# Altium integrated library Resistors.IntLib: 4954 symbols (part 30 of 32)
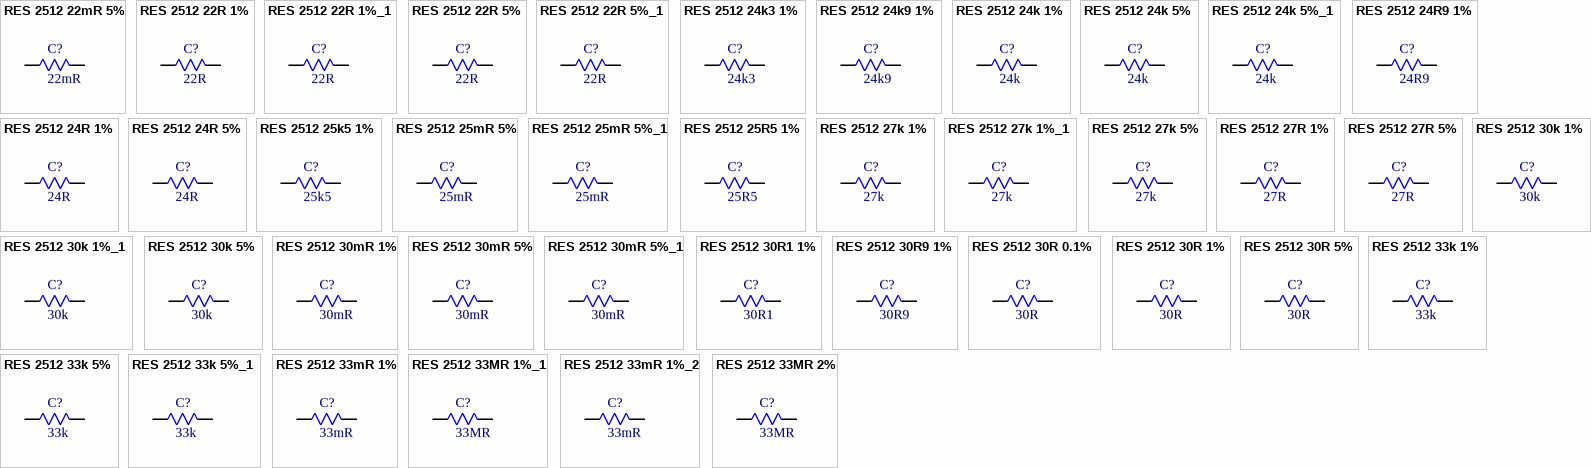
[diagram p152: symbols RES 2512 22mR 5% to RES 2512 33MR 2%]

## RES 2512 30R 0.1%
designator C?, comment 30R
1W 30R 200V Thick Film Resistor 100ppm/â„ƒ 0.1% 2512 Chip Resistor - Surface Mount RoHS; Manufacturer: FOJAN; Manufacturer Part Number: FRH2512B30R0TS; Supplier: LCSC; Supplier Part Number: C49010149; Resistance: 30R; Tolerance: 0.1%; Voltage Rating: 200V; Power: 1W
footprint RES SMD 2512
pins: 1, 2

## RES 2512 30R 1%
designator C?, comment 30R
1W 30R 200V Thick Film Resistor 100ppm/â„ƒ 1% 2512 Chip Resistor - Surface Mount RoHS; Manufacturer: FOJAN; Manufacturer Part Number: FRC2512F30R0TS; Supplier: LCSC; Supplier Part Number: C2960728; Resistance: 30R; Tolerance: 1%; Voltage Rating: 200V; Power: 1W
footprint RES SMD 2512
pins: 1, 2

## RES 2512 30R 5%
designator C?, comment 30R
1W 30R 200V Thick Film Resistor 100ppm/â„ƒ 5% 2512 Chip Resistor - Surface Mount RoHS; Manufacturer: FOJAN; Manufacturer Part Number: FRC2512J300 TS; Supplier: LCSC; Supplier Part Number: C2934107; Resistance: 30R; Tolerance: 5%; Voltage Rating: 200V; Power: 1W
footprint RES SMD 2512
pins: 1, 2

## RES 2512 33k 1%
designator C?, comment 33k
33kR 1% 1W 2512 Thick Film Resistor; Manufacturer: FOJAN; Manufacturer Part Number: FRC2512F3302TS; Voltage Rating: 200V; Supplier: LCSC; Supplier Part Number: C2934069; Resistance: 33k; Tolerance: 1%; Power: 1W
footprint RES SMD 2512
pins: 1, 2

## RES 2512 33k 5%
designator C?, comment 33k
33kR 1W Thick Film Resistor 100ppm/â„ƒ 5% 2512 Chip Resistor - Surface Mount RoHS; Manufacturer: FOJAN; Manufacturer Part Number: FRS2512J333 TS; Supplier: LCSC; Supplier Part Number: C42372224; Resistance: 33k; Tolerance: 5%; Power: 1W
footprint RES SMD 2512
pins: 1, 2

## RES 2512 33k 5%_1
designator C?, comment 33k
33kR 5% 1W 2512 Thick Film Resistor; Manufacturer: FOJAN; Manufacturer Part Number: FRC2512J333 TS; Voltage Rating: 200V; Supplier: LCSC; Supplier Part Number: C2960774; Resistance: 33k; Tolerance: 5%; Power: 1W
footprint RES SMD 2512
pins: 1, 2

## RES 2512 33mR 1%
designator C?, comment 33mR
1W 33mR Thick Film Resistor 1200ppm/â„ƒ 1% 2512 Chip Resistor - Surface Mount RoHS; Manufacturer: FOJAN; Manufacturer Part Number: FRL2512FR033TS; Supplier: LCSC; Supplier Part Number: C7467360; Resistance: 33mR; Tolerance: 1%; Power: 1W
footprint RES SMD 2512
pins: 1, 2

## RES 2512 33MR 1%_1
designator C?, comment 33MR
33MR 1% 1W 2512 Thick Film Resistor; Manufacturer: FOJAN; Manufacturer Part Number: FRG2512F3305TS; Voltage Rating: 200V; Supplier: LCSC; Supplier Part Number: C5126202; Resistance: 33MR; Tolerance: 1%; Power: 1W
footprint RES SMD 2512
pins: 1, 2

## RES 2512 33mR 1%_2
designator C?, comment 33mR
33mR 2W Alloy Resistor 1% 2512 Chip Resistor - Surface Mount RoHS; Manufacturer: FOJAN; Manufacturer Part Number: FRM252WFR033TM; Supplier: LCSC; Supplier Part Number: C51048244; Resistance: 33mR; Tolerance: 1%; Power: 2W
footprint RES SMD 2512
pins: 1, 2

## RES 2512 33MR 2%
designator C?, comment 33MR
33MR 1W Thick Film Resistor 2% 200ppm/â„ƒ 2512 Chip Resistor - Surface Mount RoHS; Manufacturer: FOJAN; Manufacturer Part Number: FRG2512G3305TS; Supplier: LCSC; Supplier Part Number: C22375090; Resistance: 33MR; Tolerance: 2%; Power: 1W
footprint RES SMD 2512
pins: 1, 2

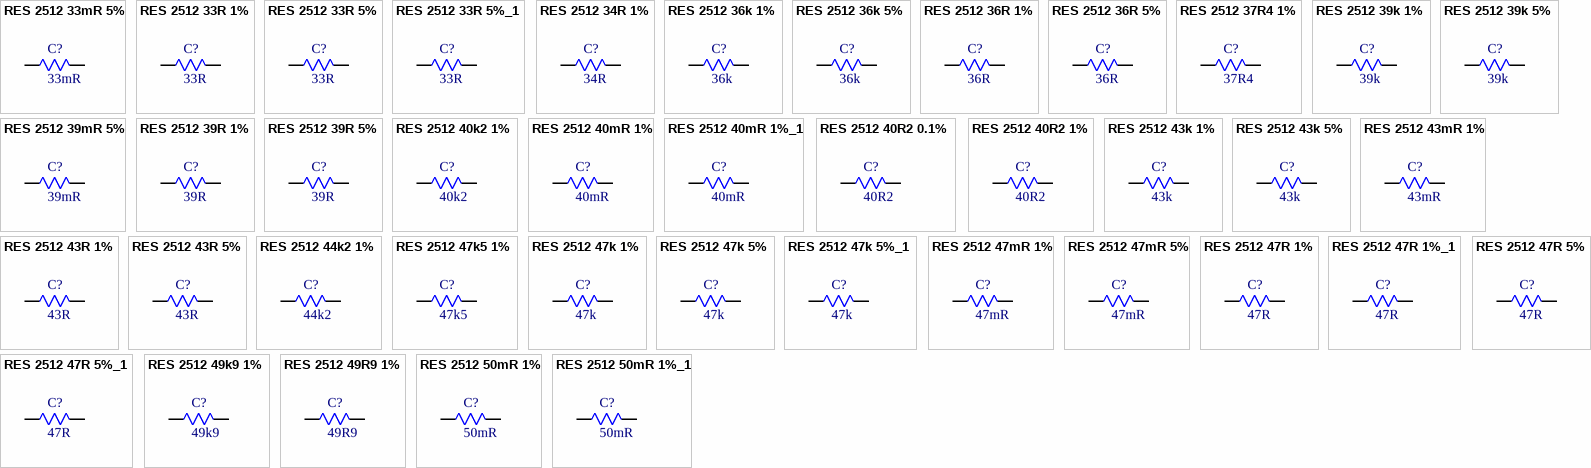
[diagram p116: symbols RES 2512 33mR 5% to RES 2512 50mR 1%_1]

## RES 2512 33mR 5%
designator C?, comment 33mR
1W 33mR Thick Film Resistor 1200ppm/â„ƒ 5% 2512 Chip Resistor - Surface Mount RoHS; Manufacturer: FOJAN; Manufacturer Part Number: FRL2512JR033TS; Supplier: LCSC; Supplier Part Number: C7467375; Resistance: 33mR; Tolerance: 5%; Power: 1W
footprint RES SMD 2512
pins: 1, 2

## RES 2512 33R 1%
designator C?, comment 33R
33R 1W 200V Thick Film Resistor 100ppm/â„ƒ 1% 2512 Chip Resistor - Surface Mount RoHS; Manufacturer: FOJAN; Manufacturer Part Number: FRC2512F33R0TS; Supplier: LCSC; Supplier Part Number: C2934070; Resistance: 33R; Tolerance: 1%; Voltage Rating: 200V; Power: 1W
footprint RES SMD 2512
pins: 1, 2

## RES 2512 33R 5%
designator C?, comment 33R
33R 2W 200V Thick Film Resistor 5% 200ppm/â„ƒ 2512 Chip Resistor - Surface Mount RoHS; Manufacturer: FOJAN; Manufacturer Part Number: FRP2512J330 TS; Supplier: LCSC; Supplier Part Number: C5713429; Resistance: 33R; Tolerance: 5%; Voltage Rating: 200V; Power: 2W
footprint RES SMD 2512
pins: 1, 2

## RES 2512 33R 5%_1
designator C?, comment 33R
33R 1W 200V Thick Film Resistor 100ppm/â„ƒ 5% 2512 Chip Resistor - Surface Mount RoHS; Manufacturer: FOJAN; Manufacturer Part Number: FRC2512J330 TS; Supplier: LCSC; Supplier Part Number: C2907581; Resistance: 33R; Tolerance: 5%; Voltage Rating: 200V; Power: 1W
footprint RES SMD 2512
pins: 1, 2

## RES 2512 34R 1%
designator C?, comment 34R
1W 34R 200V Thick Film Resistor 100ppm/â„ƒ 1% 2512 Chip Resistor - Surface Mount RoHS; Manufacturer: FOJAN; Manufacturer Part Number: FRC2512F34R0TS; Supplier: LCSC; Supplier Part Number: C49196922; Resistance: 34R; Tolerance: 1%; Voltage Rating: 200V; Power: 1W
footprint RES SMD 2512
pins: 1, 2

## RES 2512 36k 1%
designator C?, comment 36k
36kR 1% 1W 2512 Thick Film Resistor; Manufacturer: FOJAN; Manufacturer Part Number: FRC2512F3602TS; Voltage Rating: 200V; Supplier: LCSC; Supplier Part Number: C2934071; Resistance: 36k; Tolerance: 1%; Power: 1W
footprint RES SMD 2512
pins: 1, 2

## RES 2512 36k 5%
designator C?, comment 36k
36kR 5% 1W 2512 Thick Film Resistor; Manufacturer: FOJAN; Manufacturer Part Number: FRC2512J363 TS; Voltage Rating: 200V; Supplier: LCSC; Supplier Part Number: C3013332; Resistance: 36k; Tolerance: 5%; Power: 1W
footprint RES SMD 2512
pins: 1, 2

## RES 2512 36R 1%
designator C?, comment 36R
1W 36R 200V Thick Film Resistor 100ppm/â„ƒ 1% 2512 Chip Resistor - Surface Mount RoHS; Manufacturer: FOJAN; Manufacturer Part Number: FRC2512F36R0TS; Supplier: LCSC; Supplier Part Number: C3013322; Resistance: 36R; Tolerance: 1%; Voltage Rating: 200V; Power: 1W
footprint RES SMD 2512
pins: 1, 2

## RES 2512 36R 5%
designator C?, comment 36R
1W 36R 200V Thick Film Resistor 100ppm/â„ƒ 5% 2512 Chip Resistor - Surface Mount RoHS; Manufacturer: FOJAN; Manufacturer Part Number: FRC2512J360TS; Supplier: LCSC; Supplier Part Number: C3000587; Resistance: 36R; Tolerance: 5%; Voltage Rating: 200V; Power: 1W
footprint RES SMD 2512
pins: 1, 2

## RES 2512 37R4 1%
designator C?, comment 37R4
1W 37.4R 200V Thick Film Resistor 100ppm/â„ƒ 1% 2512 Chip Resistor - Surface Mount RoHS; Manufacturer: FOJAN; Manufacturer Part Number: FRC2512F37R4TS; Supplier: LCSC; Supplier Part Number: C5126023; Resistance: 37R4; Tolerance: 1%; Voltage Rating: 200V; Power: 1W
footprint RES SMD 2512
pins: 1, 2

## RES 2512 39k 1%
designator C?, comment 39k
39kR 1% 1W 2512 Thick Film Resistor; Manufacturer: FOJAN; Manufacturer Part Number: FRC2512F3902TS; Voltage Rating: 200V; Supplier: LCSC; Supplier Part Number: C5713379; Resistance: 39k; Tolerance: 1%; Power: 1W
footprint RES SMD 2512
pins: 1, 2

## RES 2512 39k 5%
designator C?, comment 39k
39kR 5% 1W 2512 Thick Film Resistor; Manufacturer: FOJAN; Manufacturer Part Number: FRC2512J393 TS; Voltage Rating: 200V; Supplier: LCSC; Supplier Part Number: C2934113; Resistance: 39k; Tolerance: 5%; Power: 1W
footprint RES SMD 2512
pins: 1, 2

## RES 2512 39mR 5%
designator C?, comment 39mR
1W 39mR Thick Film Resistor 1200ppm/â„ƒ 5% 2512 Chip Resistor - Surface Mount RoHS; Manufacturer: FOJAN; Manufacturer Part Number: FRL2512JR039TS; Supplier: LCSC; Supplier Part Number: C7467561; Resistance: 39mR; Tolerance: 5%; Power: 1W
footprint RES SMD 2512
pins: 1, 2

## RES 2512 39R 1%
designator C?, comment 39R
39R 1W 200V Thick Film Resistor 100ppm/â„ƒ 1% 2512 Chip Resistor - Surface Mount RoHS; Manufacturer: FOJAN; Manufacturer Part Number: FRC2512F39R0TS; Supplier: LCSC; Supplier Part Number: C2934073; Resistance: 39R; Tolerance: 1%; Voltage Rating: 200V; Power: 1W
footprint RES SMD 2512
pins: 1, 2

## RES 2512 39R 5%
designator C?, comment 39R
39R 1W 200V Thick Film Resistor 100ppm/â„ƒ 5% 2512 Chip Resistor - Surface Mount RoHS; Manufacturer: FOJAN; Manufacturer Part Number: FRC2512J390 TS; Supplier: LCSC; Supplier Part Number: C2907582; Resistance: 39R; Tolerance: 5%; Voltage Rating: 200V; Power: 1W
footprint RES SMD 2512
pins: 1, 2

## RES 2512 40k2 1%
designator C?, comment 40k2
40.2kR 1W 200V Thick Film Resistor 1% 2512 Chip Resistor - Surface Mount RoHS; Manufacturer: FOJAN; Manufacturer Part Number: FRC2512F4022TS; Supplier: LCSC; Supplier Part Number: C51048310; Resistance: 40k2; Tolerance: 1%; Voltage Rating: 200V; Power: 1W
footprint RES SMD 2512
pins: 1, 2

## RES 2512 40mR 1%
designator C?, comment 40mR
2W 40mR Current Sense Resistor 50ppm/â„ƒ 1% 2512 Chip Resistor - Surface Mount RoHS; Manufacturer: FOJAN; Manufacturer Part Number: FRM252WFR040TN; Supplier: LCSC; Supplier Part Number: C7420007; Resistance: 40mR; Tolerance: 1%; Power: 2W
footprint RES SMD 2512
pins: 1, 2

## RES 2512 40mR 1%_1
designator C?, comment 40mR
40mR 1% 3W; Manufacturer: FOJAN; Manufacturer Part Number: FPM253WFR040TN; Supplier: LCSC; Supplier Part Number: C46635906; Resistance: 40mR; Tolerance: 1%; Power: 3W
footprint RES SMD 2512
pins: 1, 2

## RES 2512 40R2 0.1%
designator C?, comment 40R2
1W 40.2R 200V Thick Film Resistor 100ppm/â„ƒ 0.1% 2512 Chip Resistor - Surface Mount RoHS; Manufacturer: FOJAN; Manufacturer Part Number: FRH2512B40R2TS; Supplier: LCSC; Supplier Part Number: C49196930; Resistance: 40R2; Tolerance: 0.1%; Voltage Rating: 200V; Power: 1W
footprint RES SMD 2512
pins: 1, 2

## RES 2512 40R2 1%
designator C?, comment 40R2
1W 40.2R 200V Thick Film Resistor 100ppm/â„ƒ 1% 2512 Chip Resistor - Surface Mount RoHS; Manufacturer: FOJAN; Manufacturer Part Number: FRC2512F40R2TS; Supplier: LCSC; Supplier Part Number: C5121566; Resistance: 40R2; Tolerance: 1%; Voltage Rating: 200V; Power: 1W
footprint RES SMD 2512
pins: 1, 2

## RES 2512 43k 1%
designator C?, comment 43k
43kR 1% 1W 2512 Thick Film Resistor; Manufacturer: FOJAN; Manufacturer Part Number: FRC2512F4302TS; Voltage Rating: 200V; Supplier: LCSC; Supplier Part Number: C5153997; Resistance: 43k; Tolerance: 1%; Power: 1W
footprint RES SMD 2512
pins: 1, 2

## RES 2512 43k 5%
designator C?, comment 43k
43kR 5% 1W 2512 Thick Film Resistor; Manufacturer: FOJAN; Manufacturer Part Number: FRC2512J433 TS; Voltage Rating: 200V; Supplier: LCSC; Supplier Part Number: C2934117; Resistance: 43k; Tolerance: 5%; Power: 1W
footprint RES SMD 2512
pins: 1, 2

## RES 2512 43mR 1%
designator C?, comment 43mR
1W 43mR Thick Film Resistor 1200ppm/â„ƒ 1% 2512 Chip Resistor - Surface Mount RoHS; Manufacturer: FOJAN; Manufacturer Part Number: FRL2512FR043TS; Supplier: LCSC; Supplier Part Number: C7467694; Resistance: 43mR; Tolerance: 1%; Power: 1W
footprint RES SMD 2512
pins: 1, 2

## RES 2512 43R 1%
designator C?, comment 43R
1W 43R 200V Thick Film Resistor 100ppm/â„ƒ 1% 2512 Chip Resistor - Surface Mount RoHS; Manufacturer: FOJAN; Manufacturer Part Number: FRC2512F43R0TS; Supplier: LCSC; Supplier Part Number: C5154022; Resistance: 43R; Tolerance: 1%; Voltage Rating: 200V; Power: 1W
footprint RES SMD 2512
pins: 1, 2

## RES 2512 43R 5%
designator C?, comment 43R
1W 43R 200V Thick Film Resistor 100ppm/â„ƒ 5% 2512 Chip Resistor - Surface Mount RoHS; Manufacturer: FOJAN; Manufacturer Part Number: FRC2512J430TS; Supplier: LCSC; Supplier Part Number: C2930460; Resistance: 43R; Tolerance: 5%; Voltage Rating: 200V; Power: 1W
footprint RES SMD 2512
pins: 1, 2

## RES 2512 44k2 1%
designator C?, comment 44k2
44.2kR 1W 200V Thick Film Resistor 1% 2512 Chip Resistor - Surface Mount RoHS; Manufacturer: FOJAN; Manufacturer Part Number: FRC2512F4422TS; Supplier: LCSC; Supplier Part Number: C51048347; Resistance: 44k2; Tolerance: 1%; Voltage Rating: 200V; Power: 1W
footprint RES SMD 2512
pins: 1, 2

## RES 2512 47k5 1%
designator C?, comment 47k5
1W 47.5kR 200V Thick Film Resistor 1% 2512 Chip Resistor - Surface Mount RoHS; Manufacturer: FOJAN; Manufacturer Part Number: FRC2512F4752TS; Supplier: LCSC; Supplier Part Number: C51048269; Resistance: 47k5; Tolerance: 1%; Voltage Rating: 200V; Power: 1W
footprint RES SMD 2512
pins: 1, 2

## RES 2512 47k 1%
designator C?, comment 47k
47kR 1% 1W 2512 Thick Film Resistor; Manufacturer: FOJAN; Manufacturer Part Number: FRC2512F4702TS; Voltage Rating: 200V; Supplier: LCSC; Supplier Part Number: C2934076; Resistance: 47k; Tolerance: 1%; Power: 1W
footprint RES SMD 2512
pins: 1, 2

## RES 2512 47k 5%
designator C?, comment 47k
47kR 5% 1W 2512 Thick Film Resistor; Manufacturer: FOJAN; Manufacturer Part Number: FRC2512J473 TS; Voltage Rating: 200V; Supplier: LCSC; Supplier Part Number: C2907586; Resistance: 47k; Tolerance: 5%; Power: 1W
footprint RES SMD 2512
pins: 1, 2

## RES 2512 47k 5%_1
designator C?, comment 47k
1W 47kR Thick Film Resistor 100ppm/â„ƒ 5% 2512 Chip Resistor - Surface Mount RoHS; Manufacturer: FOJAN; Manufacturer Part Number: FRS2512J473 TS; Supplier: LCSC; Supplier Part Number: C49010114; Resistance: 47k; Tolerance: 5%; Power: 1W
footprint RES SMD 2512
pins: 1, 2

## RES 2512 47mR 1%
designator C?, comment 47mR
1W 47mR Thick Film Resistor 1200ppm/â„ƒ 1% 2512 Chip Resistor - Surface Mount RoHS; Manufacturer: FOJAN; Manufacturer Part Number: FRL2512FR047TS; Supplier: LCSC; Supplier Part Number: C7467449; Resistance: 47mR; Tolerance: 1%; Power: 1W
footprint RES SMD 2512
pins: 1, 2

## RES 2512 47mR 5%
designator C?, comment 47mR
1W 47mR Thick Film Resistor 1200ppm/â„ƒ 5% 2512 Chip Resistor - Surface Mount RoHS; Manufacturer: FOJAN; Manufacturer Part Number: FRL2512JR047TS; Supplier: LCSC; Supplier Part Number: C7467523; Resistance: 47mR; Tolerance: 5%; Power: 1W
footprint RES SMD 2512
pins: 1, 2

## RES 2512 47R 1%
designator C?, comment 47R
1W 47R 200V Thick Film Resistor 100ppm/â„ƒ 1% 2512 Chip Resistor - Surface Mount RoHS; Manufacturer: FOJAN; Manufacturer Part Number: FRC2512F47R0TS; Supplier: LCSC; Supplier Part Number: C3000771; Resistance: 47R; Tolerance: 1%; Voltage Rating: 200V; Power: 1W
footprint RES SMD 2512
pins: 1, 2

## RES 2512 47R 1%_1
designator C?, comment 47R
47R 2W Thick Film Resistor 200ppm/â„ƒ 1% 2512 Chip Resistor - Surface Mount RoHS; Manufacturer: FOJAN; Manufacturer Part Number: FRP2512F47R0TS; Supplier: LCSC; Supplier Part Number: C7468221; Resistance: 47R; Tolerance: 1%; Power: 2W
footprint RES SMD 2512
pins: 1, 2

## RES 2512 47R 5%
designator C?, comment 47R
2W 47R 200V Thick Film Resistor 200ppm/â„ƒ 5% 2512 Chip Resistor - Surface Mount RoHS; Manufacturer: FOJAN; Manufacturer Part Number: FRP2512J470 TS; Supplier: LCSC; Supplier Part Number: C3013388; Resistance: 47R; Tolerance: 5%; Voltage Rating: 200V; Power: 2W
footprint RES SMD 2512
pins: 1, 2

## RES 2512 47R 5%_1
designator C?, comment 47R
1W 47R 200V Thick Film Resistor 100ppm/â„ƒ 5% 2512 Chip Resistor - Surface Mount RoHS; Manufacturer: FOJAN; Manufacturer Part Number: FRC2512J470TS; Supplier: LCSC; Supplier Part Number: C3000661; Resistance: 47R; Tolerance: 5%; Voltage Rating: 200V; Power: 1W
footprint RES SMD 2512
pins: 1, 2

## RES 2512 49k9 1%
designator C?, comment 49k9
49.9kR 1% 1W 2512 Thick Film Resistor; Manufacturer: FOJAN; Manufacturer Part Number: FRC2512F4992TS; Voltage Rating: 200V; Supplier: LCSC; Supplier Part Number: C3000772; Resistance: 49k9; Tolerance: 1%; Power: 1W
footprint RES SMD 2512
pins: 1, 2

## RES 2512 49R9 1%
designator C?, comment 49R9
49.9R 1W 200V Thick Film Resistor 100ppm/â„ƒ 1% 2512 Chip Resistor - Surface Mount RoHS; Manufacturer: FOJAN; Manufacturer Part Number: FRC2512F49R9TS; Supplier: LCSC; Supplier Part Number: C2960769; Resistance: 49R9; Tolerance: 1%; Voltage Rating: 200V; Power: 1W
footprint RES SMD 2512
pins: 1, 2

## RES 2512 50mR 1%
designator C?, comment 50mR
50mR 2W Current Sense Resistor 50ppm/â„ƒ 1% 2512 Chip Resistor - Surface Mount RoHS; Manufacturer: FOJAN; Manufacturer Part Number: FRM252WFR050TN; Supplier: LCSC; Supplier Part Number: C7420008; Resistance: 50mR; Tolerance: 1%; Power: 2W
footprint RES SMD 2512
pins: 1, 2

## RES 2512 50mR 1%_1
designator C?, comment 50mR
1W 50mR Thick Film Resistor 1200ppm/â„ƒ 1% 2512 Chip Resistor - Surface Mount RoHS; Manufacturer: FOJAN; Manufacturer Part Number: FRL2512FR050TS; Supplier: LCSC; Supplier Part Number: C7467455; Resistance: 50mR; Tolerance: 1%; Power: 1W
footprint RES SMD 2512
pins: 1, 2

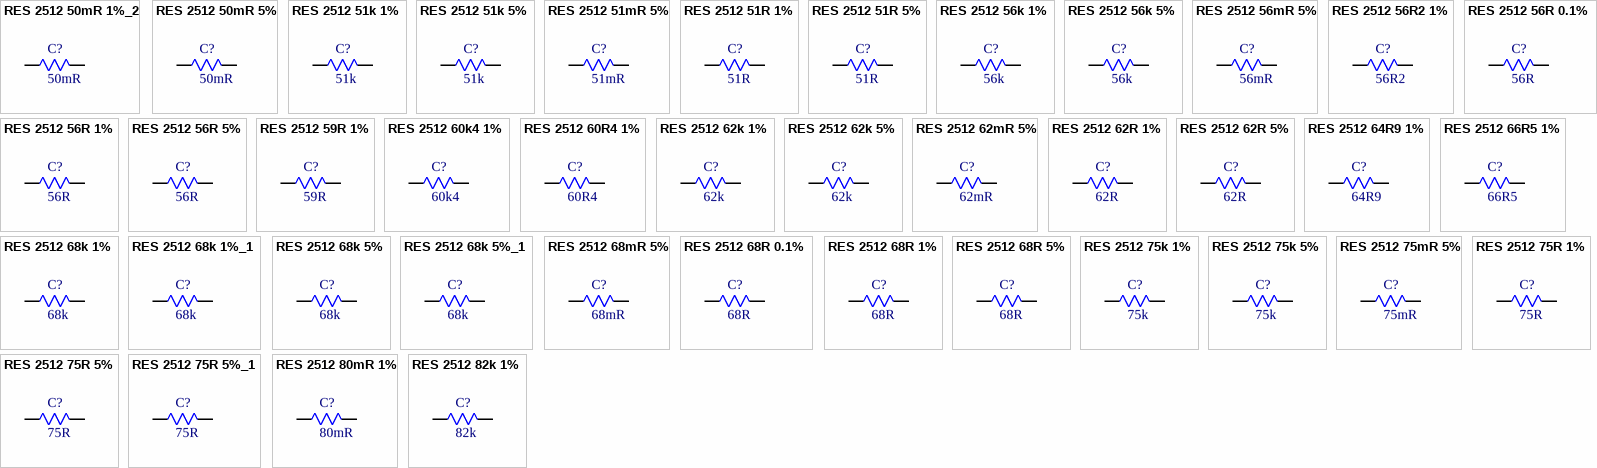
[diagram p117: symbols RES 2512 50mR 1%_2 to RES 2512 82k 1%]

## RES 2512 50mR 1%_2
designator C?, comment 50mR
50mR 1% 3W; Manufacturer: FOJAN; Manufacturer Part Number: FPM253WFR050TM; Supplier: LCSC; Supplier Part Number: C46635896; Resistance: 50mR; Tolerance: 1%; Power: 3W
footprint RES SMD 2512
pins: 1, 2

## RES 2512 50mR 5%
designator C?, comment 50mR
50mR 5% 1W 2512 Thick Film Resistor; Manufacturer: FOJAN; Manufacturer Part Number: FRL2512JR050TS; Voltage Rating: 500V; Supplier: LCSC; Supplier Part Number: C3000641; Resistance: 50mR; Tolerance: 5%; Power: 1W
footprint RES SMD 2512
pins: 1, 2

## RES 2512 51k 1%
designator C?, comment 51k
51kR 1% 1W 2512 Thick Film Resistor; Manufacturer: FOJAN; Manufacturer Part Number: FRC2512F5102TS; Voltage Rating: 200V; Supplier: LCSC; Supplier Part Number: C2960777; Resistance: 51k; Tolerance: 1%; Power: 1W
footprint RES SMD 2512
pins: 1, 2

## RES 2512 51k 5%
designator C?, comment 51k
51kR 5% 1W 2512 Thick Film Resistor; Manufacturer: FOJAN; Manufacturer Part Number: FRC2512J513 TS; Voltage Rating: 200V; Supplier: LCSC; Supplier Part Number: C2934123; Resistance: 51k; Tolerance: 5%; Power: 1W
footprint RES SMD 2512
pins: 1, 2

## RES 2512 51mR 5%
designator C?, comment 51mR
51mR 5% 1W 2512 Thick Film Resistor; Manufacturer: FOJAN; Manufacturer Part Number: FRL2512JR051TS; Voltage Rating: 500V; Supplier: LCSC; Supplier Part Number: C5713414; Resistance: 51mR; Tolerance: 5%; Power: 1W
footprint RES SMD 2512
pins: 1, 2

## RES 2512 51R 1%
designator C?, comment 51R
1W 51R 200V Thick Film Resistor 100ppm/â„ƒ 1% 2512 Chip Resistor - Surface Mount RoHS; Manufacturer: FOJAN; Manufacturer Part Number: FRC2512F51R0TS; Supplier: LCSC; Supplier Part Number: C2934078; Resistance: 51R; Tolerance: 1%; Voltage Rating: 200V; Power: 1W
footprint RES SMD 2512
pins: 1, 2

## RES 2512 51R 5%
designator C?, comment 51R
1W 51R 200V Thick Film Resistor 100ppm/â„ƒ 5% 2512 Chip Resistor - Surface Mount RoHS; Manufacturer: FOJAN; Manufacturer Part Number: FRC2512J510 TS; Supplier: LCSC; Supplier Part Number: C2934120; Resistance: 51R; Tolerance: 5%; Voltage Rating: 200V; Power: 1W
footprint RES SMD 2512
pins: 1, 2

## RES 2512 56k 1%
designator C?, comment 56k
56kR 1% 1W 2512 Thick Film Resistor; Manufacturer: FOJAN; Manufacturer Part Number: FRC2512F5602TS; Voltage Rating: 200V; Supplier: LCSC; Supplier Part Number: C3000560; Resistance: 56k; Tolerance: 1%; Power: 1W
footprint RES SMD 2512
pins: 1, 2

## RES 2512 56k 5%
designator C?, comment 56k
56kR 5% 1W 2512 Thick Film Resistor; Manufacturer: FOJAN; Manufacturer Part Number: FRC2512J563 TS; Voltage Rating: 200V; Supplier: LCSC; Supplier Part Number: C2934125; Resistance: 56k; Tolerance: 5%; Power: 1W
footprint RES SMD 2512
pins: 1, 2

## RES 2512 56mR 5%
designator C?, comment 56mR
56mR 5% 1W 2512 Thick Film Resistor; Manufacturer: FOJAN; Manufacturer Part Number: FRL2512JR056TS; Voltage Rating: 500V; Supplier: LCSC; Supplier Part Number: C5159764; Resistance: 56mR; Tolerance: 5%; Power: 1W
footprint RES SMD 2512
pins: 1, 2

## RES 2512 56R2 1%
designator C?, comment 56R2
1W 56.2R 200V Thick Film Resistor 100ppm/â„ƒ 1% 2512 Chip Resistor - Surface Mount RoHS; Manufacturer: FOJAN; Manufacturer Part Number: FRC2512F56R2 TS; Supplier: LCSC; Supplier Part Number: C5357169; Resistance: 56R2; Tolerance: 1%; Voltage Rating: 200V; Power: 1W
footprint RES SMD 2512
pins: 1, 2

## RES 2512 56R 0.1%
designator C?, comment 56R
56R 1W 200V Thick Film Resistor 100ppm/â„ƒ 0.1% 2512 Chip Resistor - Surface Mount RoHS; Manufacturer: FOJAN; Manufacturer Part Number: FRH2512B56R0TS; Supplier: LCSC; Supplier Part Number: C49196687; Resistance: 56R; Tolerance: 0.1%; Voltage Rating: 200V; Power: 1W
footprint RES SMD 2512
pins: 1, 2

## RES 2512 56R 1%
designator C?, comment 56R
1W 56R 200V Thick Film Resistor 100ppm/â„ƒ 1% 2512 Chip Resistor - Surface Mount RoHS; Manufacturer: FOJAN; Manufacturer Part Number: FRC2512F56R0TS; Supplier: LCSC; Supplier Part Number: C2999538; Resistance: 56R; Tolerance: 1%; Voltage Rating: 200V; Power: 1W
footprint RES SMD 2512
pins: 1, 2

## RES 2512 56R 5%
designator C?, comment 56R
1W 56R 200V Thick Film Resistor 100ppm/â„ƒ 5% 2512 Chip Resistor - Surface Mount RoHS; Manufacturer: FOJAN; Manufacturer Part Number: FRC2512J560TS; Supplier: LCSC; Supplier Part Number: C3000665; Resistance: 56R; Tolerance: 5%; Voltage Rating: 200V; Power: 1W
footprint RES SMD 2512
pins: 1, 2

## RES 2512 59R 1%
designator C?, comment 59R
1W 59R 200V Thick Film Resistor 100ppm/â„ƒ 1% 2512 Chip Resistor - Surface Mount RoHS; Manufacturer: FOJAN; Manufacturer Part Number: FRC2512F59R0TS; Supplier: LCSC; Supplier Part Number: C48533785; Resistance: 59R; Tolerance: 1%; Voltage Rating: 200V; Power: 1W
footprint RES SMD 2512
pins: 1, 2

## RES 2512 60k4 1%
designator C?, comment 60k4
60.4kR 1% 1W 2512 Thick Film Resistor; Manufacturer: FOJAN; Manufacturer Part Number: FRC2512F6042TS; Voltage Rating: 200V; Supplier: LCSC; Supplier Part Number: C5126066; Resistance: 60k4; Tolerance: 1%; Power: 1W
footprint RES SMD 2512
pins: 1, 2

## RES 2512 60R4 1%
designator C?, comment 60R4
1W 60.4R 200V Thick Film Resistor 100ppm/â„ƒ 1% 2512 Chip Resistor - Surface Mount RoHS; Manufacturer: FOJAN; Manufacturer Part Number: FRC2512F60R4TS; Supplier: LCSC; Supplier Part Number: C2999539; Resistance: 60R4; Tolerance: 1%; Voltage Rating: 200V; Power: 1W
footprint RES SMD 2512
pins: 1, 2

## RES 2512 62k 1%
designator C?, comment 62k
62kR 1% 1W 2512 Thick Film Resistor; Manufacturer: FOJAN; Manufacturer Part Number: FRC2512F6202TS; Voltage Rating: 200V; Supplier: LCSC; Supplier Part Number: C2999628; Resistance: 62k; Tolerance: 1%; Power: 1W
footprint RES SMD 2512
pins: 1, 2

## RES 2512 62k 5%
designator C?, comment 62k
62kR 5% 1W 2512 Thick Film Resistor; Manufacturer: FOJAN; Manufacturer Part Number: FRC2512J623 TS; Voltage Rating: 200V; Supplier: LCSC; Supplier Part Number: C2934126; Resistance: 62k; Tolerance: 5%; Power: 1W
footprint RES SMD 2512
pins: 1, 2

## RES 2512 62mR 5%
designator C?, comment 62mR
62mR 5% 1W 2512 Thick Film Resistor; Manufacturer: FOJAN; Manufacturer Part Number: FRL2512JR062TS; Voltage Rating: 500V; Supplier: LCSC; Supplier Part Number: C3000642; Resistance: 62mR; Tolerance: 5%; Power: 1W
footprint RES SMD 2512
pins: 1, 2

## RES 2512 62R 1%
designator C?, comment 62R
1W 62R 200V Thick Film Resistor 100ppm/â„ƒ 1% 2512 Chip Resistor - Surface Mount RoHS; Manufacturer: FOJAN; Manufacturer Part Number: FRC2512F62R0TS; Supplier: LCSC; Supplier Part Number: C2999540; Resistance: 62R; Tolerance: 1%; Voltage Rating: 200V; Power: 1W
footprint RES SMD 2512
pins: 1, 2

## RES 2512 62R 5%
designator C?, comment 62R
1W 62R 200V Thick Film Resistor 100ppm/â„ƒ 5% 2512 Chip Resistor - Surface Mount RoHS; Manufacturer: FOJAN; Manufacturer Part Number: FRC2512J620 TS; Supplier: LCSC; Supplier Part Number: C2960732; Resistance: 62R; Tolerance: 5%; Voltage Rating: 200V; Power: 1W
footprint RES SMD 2512
pins: 1, 2

## RES 2512 64R9 1%
designator C?, comment 64R9
1W 64.9R 200V Thick Film Resistor 1% 2512 Chip Resistor - Surface Mount RoHS; Manufacturer: FOJAN; Manufacturer Part Number: FRC2512F64R9TS; Supplier: LCSC; Supplier Part Number: C51048316; Resistance: 64R9; Tolerance: 1%; Voltage Rating: 200V; Power: 1W
footprint RES SMD 2512
pins: 1, 2

## RES 2512 66R5 1%
designator C?, comment 66R5
1W 66.5R 200V Thick Film Resistor 1% 2512 Chip Resistor - Surface Mount RoHS; Manufacturer: FOJAN; Manufacturer Part Number: FRC2512F66R5TS; Supplier: LCSC; Supplier Part Number: C52033526; Resistance: 66R5; Tolerance: 1%; Voltage Rating: 200V; Power: 1W
footprint RES SMD 2512
pins: 1, 2

## RES 2512 68k 1%
designator C?, comment 68k
68kR 2W Thick Film Resistor 200ppm/â„ƒ 1% 2512 Chip Resistor - Surface Mount RoHS; Manufacturer: FOJAN; Manufacturer Part Number: FRP2512F6802TS; Supplier: LCSC; Supplier Part Number: C7468207; Resistance: 68k; Tolerance: 1%; Power: 2W
footprint RES SMD 2512
pins: 1, 2

## RES 2512 68k 1%_1
designator C?, comment 68k
68kR 1% 1W 2512 Thick Film Resistor; Manufacturer: FOJAN; Manufacturer Part Number: FRC2512F6802TS; Voltage Rating: 200V; Supplier: LCSC; Supplier Part Number: C5159762; Resistance: 68k; Tolerance: 1%; Power: 1W
footprint RES SMD 2512
pins: 1, 2

## RES 2512 68k 5%
designator C?, comment 68k
68kR 5% 1W 2512 Thick Film Resistor; Manufacturer: FOJAN; Manufacturer Part Number: FRC2512J683 TS; Voltage Rating: 200V; Supplier: LCSC; Supplier Part Number: C2960758; Resistance: 68k; Tolerance: 5%; Power: 1W
footprint RES SMD 2512
pins: 1, 2

## RES 2512 68k 5%_1
designator C?, comment 68k
68kR 1W Thick Film Resistor 100ppm/â„ƒ 5% 2512 Chip Resistor - Surface Mount RoHS; Manufacturer: FOJAN; Manufacturer Part Number: FRS2512J683 TS; Supplier: LCSC; Supplier Part Number: C42372226; Resistance: 68k; Tolerance: 5%; Power: 1W
footprint RES SMD 2512
pins: 1, 2

## RES 2512 68mR 5%
designator C?, comment 68mR
68mR 5% 1W 2512 Thick Film Resistor; Manufacturer: FOJAN; Manufacturer Part Number: FRL2512JR068TS; Voltage Rating: 500V; Supplier: LCSC; Supplier Part Number: C3000683; Resistance: 68mR; Tolerance: 5%; Power: 1W
footprint RES SMD 2512
pins: 1, 2

## RES 2512 68R 0.1%
designator C?, comment 68R
1W 68R 200V Thick Film Resistor 100ppm/â„ƒ 0.1% 2512 Chip Resistor - Surface Mount RoHS; Manufacturer: FOJAN; Manufacturer Part Number: FRH2512B68R0TS; Supplier: LCSC; Supplier Part Number: C49196689; Resistance: 68R; Tolerance: 0.1%; Voltage Rating: 200V; Power: 1W
footprint RES SMD 2512
pins: 1, 2

## RES 2512 68R 1%
designator C?, comment 68R
1W 68R 200V Thick Film Resistor 100ppm/â„ƒ 1% 2512 Chip Resistor - Surface Mount RoHS; Manufacturer: FOJAN; Manufacturer Part Number: FRC2512F68R0TS; Supplier: LCSC; Supplier Part Number: C2999608; Resistance: 68R; Tolerance: 1%; Voltage Rating: 200V; Power: 1W
footprint RES SMD 2512
pins: 1, 2

## RES 2512 68R 5%
designator C?, comment 68R
68R 1W 200V Thick Film Resistor 100ppm/â„ƒ 5% 2512 Chip Resistor - Surface Mount RoHS; Manufacturer: FOJAN; Manufacturer Part Number: FRC2512J680 TS; Supplier: LCSC; Supplier Part Number: C2907587; Resistance: 68R; Tolerance: 5%; Voltage Rating: 200V; Power: 1W
footprint RES SMD 2512
pins: 1, 2

## RES 2512 75k 1%
designator C?, comment 75k
75kR 1% 1W 2512 Thick Film Resistor; Manufacturer: FOJAN; Manufacturer Part Number: FRC2512F7502TS; Voltage Rating: 200V; Supplier: LCSC; Supplier Part Number: C2999605; Resistance: 75k; Tolerance: 1%; Power: 1W
footprint RES SMD 2512
pins: 1, 2

## RES 2512 75k 5%
designator C?, comment 75k
75kR 5% 1W 2512 Thick Film Resistor; Manufacturer: FOJAN; Manufacturer Part Number: FRC2512J753 TS; Voltage Rating: 200V; Supplier: LCSC; Supplier Part Number: C2907588; Resistance: 75k; Tolerance: 5%; Power: 1W
footprint RES SMD 2512
pins: 1, 2

## RES 2512 75mR 5%
designator C?, comment 75mR
75mR 5% 1W 2512 Thick Film Resistor; Manufacturer: FOJAN; Manufacturer Part Number: FRL2512JR075TS; Voltage Rating: 500V; Supplier: LCSC; Supplier Part Number: C3000715; Resistance: 75mR; Tolerance: 5%; Power: 1W
footprint RES SMD 2512
pins: 1, 2

## RES 2512 75R 1%
designator C?, comment 75R
1W 75R 200V Thick Film Resistor 100ppm/â„ƒ 1% 2512 Chip Resistor - Surface Mount RoHS; Manufacturer: FOJAN; Manufacturer Part Number: FRC2512F75R0TS; Supplier: LCSC; Supplier Part Number: C3000608; Resistance: 75R; Tolerance: 1%; Voltage Rating: 200V; Power: 1W
footprint RES SMD 2512
pins: 1, 2

## RES 2512 75R 5%
designator C?, comment 75R
75R 2W Thick Film Resistor 200ppm/â„ƒ 5% 2512 Chip Resistor - Surface Mount RoHS; Manufacturer: FOJAN; Manufacturer Part Number: FRP2512J750 TS; Supplier: LCSC; Supplier Part Number: C7468128; Resistance: 75R; Tolerance: 5%; Power: 2W
footprint RES SMD 2512
pins: 1, 2

## RES 2512 75R 5%_1
designator C?, comment 75R
1W 75R 200V Thick Film Resistor 100ppm/â„ƒ 5% 2512 Chip Resistor - Surface Mount RoHS; Manufacturer: FOJAN; Manufacturer Part Number: FRC2512J750 TS; Supplier: LCSC; Supplier Part Number: C2907589; Resistance: 75R; Tolerance: 5%; Voltage Rating: 200V; Power: 1W
footprint RES SMD 2512
pins: 1, 2

## RES 2512 80mR 1%
designator C?, comment 80mR
2W 80mR 50ppm/â„ƒ 1% 2512 Chip Resistor - Surface Mount RoHS; Manufacturer: FOJAN; Manufacturer Part Number: FPM252WFR080TM; Supplier: LCSC; Supplier Part Number: C48533609; Resistance: 80mR; Tolerance: 1%; Power: 2W
footprint RES SMD 2512
pins: 1, 2

## RES 2512 82k 1%
designator C?, comment 82k
1W 82kR 200V Thick Film Resistor 1% 100ppm/â„ƒ 2512 Chip Resistor - Surface Mount RoHS; Manufacturer: FOJAN; Manufacturer Part Number: FRC2512F8202TS; Supplier: LCSC; Supplier Part Number: C7467345; Resistance: 82k; Tolerance: 1%; Voltage Rating: 200V; Power: 1W
footprint RES SMD 2512
pins: 1, 2

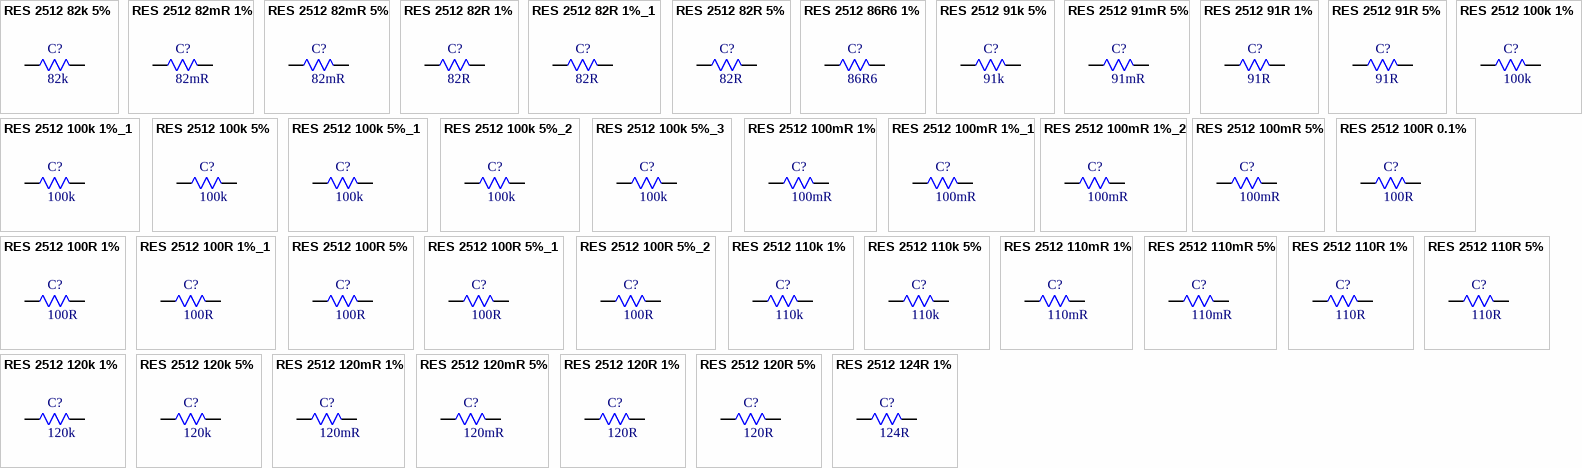
[diagram p118: symbols RES 2512 82k 5% to RES 2512 124R 1%]

## RES 2512 82k 5%
designator C?, comment 82k
82kR 5% 1W 2512 Thick Film Resistor; Manufacturer: FOJAN; Manufacturer Part Number: FRC2512J823TS; Voltage Rating: 200V; Supplier: LCSC; Supplier Part Number: C3000669; Resistance: 82k; Tolerance: 5%; Power: 1W
footprint RES SMD 2512
pins: 1, 2

## RES 2512 82mR 1%
designator C?, comment 82mR
1W 82mR Thick Film Resistor 200ppm/â„ƒ 1% 2512 Chip Resistor - Surface Mount RoHS; Manufacturer: FOJAN; Manufacturer Part Number: FRL2512FR082TS; Supplier: LCSC; Supplier Part Number: C7467601; Resistance: 82mR; Tolerance: 1%; Power: 1W
footprint RES SMD 2512
pins: 1, 2

## RES 2512 82mR 5%
designator C?, comment 82mR
82mR 5% 1W 2512 Thick Film Resistor; Manufacturer: FOJAN; Manufacturer Part Number: FRL2512JR082TS; Voltage Rating: 500V; Supplier: LCSC; Supplier Part Number: C3000670; Resistance: 82mR; Tolerance: 5%; Power: 1W
footprint RES SMD 2512
pins: 1, 2

## RES 2512 82R 1%
designator C?, comment 82R
1W 82R 200V Thick Film Resistor 100ppm/â„ƒ 1% 2512 Chip Resistor - Surface Mount RoHS; Manufacturer: FOJAN; Manufacturer Part Number: FRC2512F82R0TS; Supplier: LCSC; Supplier Part Number: C3000773; Resistance: 82R; Tolerance: 1%; Voltage Rating: 200V; Power: 1W
footprint RES SMD 2512
pins: 1, 2

## RES 2512 82R 1%_1
designator C?, comment 82R
82R 2W Thick Film Resistor 200ppm/â„ƒ 1% 2512 Chip Resistor - Surface Mount RoHS; Manufacturer: FOJAN; Manufacturer Part Number: FRP2512F82R0TS; Supplier: LCSC; Supplier Part Number: C7468298; Resistance: 82R; Tolerance: 1%; Power: 2W
footprint RES SMD 2512
pins: 1, 2

## RES 2512 82R 5%
designator C?, comment 82R
1W 82R 200V Thick Film Resistor 100ppm/â„ƒ 5% 2512 Chip Resistor - Surface Mount RoHS; Manufacturer: FOJAN; Manufacturer Part Number: FRC2512J820TS; Supplier: LCSC; Supplier Part Number: C3000699; Resistance: 82R; Tolerance: 5%; Voltage Rating: 200V; Power: 1W
footprint RES SMD 2512
pins: 1, 2

## RES 2512 86R6 1%
designator C?, comment 86R6
1W 86.6R 200V Thick Film Resistor 100ppm/â„ƒ 1% 2512 Chip Resistor - Surface Mount RoHS; Manufacturer: FOJAN; Manufacturer Part Number: FRC2512F86R6TS; Supplier: LCSC; Supplier Part Number: C22375103; Resistance: 86R6; Tolerance: 1%; Voltage Rating: 200V; Power: 1W
footprint RES SMD 2512
pins: 1, 2

## RES 2512 91k 5%
designator C?, comment 91k
91kR 5% 1W 2512 Thick Film Resistor; Manufacturer: FOJAN; Manufacturer Part Number: FRC2512J913TS; Voltage Rating: 200V; Supplier: LCSC; Supplier Part Number: C3000714; Resistance: 91k; Tolerance: 5%; Power: 1W
footprint RES SMD 2512
pins: 1, 2

## RES 2512 91mR 5%
designator C?, comment 91mR
91mR 5% 1W 2512 Thick Film Resistor; Manufacturer: FOJAN; Manufacturer Part Number: FRL2512JR091TS; Voltage Rating: 500V; Supplier: LCSC; Supplier Part Number: C3013370; Resistance: 91mR; Tolerance: 5%; Power: 1W
footprint RES SMD 2512
pins: 1, 2

## RES 2512 91R 1%
designator C?, comment 91R
1W 91R 200V Thick Film Resistor 1% 100ppm/â„ƒ 2512 Chip Resistor - Surface Mount RoHS; Manufacturer: FOJAN; Manufacturer Part Number: FRC2512F91R0TS; Supplier: LCSC; Supplier Part Number: C7467476; Resistance: 91R; Tolerance: 1%; Voltage Rating: 200V; Power: 1W
footprint RES SMD 2512
pins: 1, 2

## RES 2512 91R 5%
designator C?, comment 91R
91R 1W 200V Thick Film Resistor 100ppm/â„ƒ 5% 2512 Chip Resistor - Surface Mount RoHS; Manufacturer: FOJAN; Manufacturer Part Number: FRC2512J910 TS; Supplier: LCSC; Supplier Part Number: C2934133; Resistance: 91R; Tolerance: 5%; Voltage Rating: 200V; Power: 1W
footprint RES SMD 2512
pins: 1, 2

## RES 2512 100k 1%
designator C?, comment 100k
100kR 1% 1W 2512 Thick Film Resistor; Manufacturer: FOJAN; Manufacturer Part Number: FRC2512F1003TS; Voltage Rating: 200V; Supplier: LCSC; Supplier Part Number: C2934045; Resistance: 100k; Tolerance: 1%; Power: 1W
footprint RES SMD 2512
pins: 1, 2

## RES 2512 100k 1%_1
designator C?, comment 100k
2W 100kR 200V Thick Film Resistor 200ppm/â„ƒ 1% 2512 Chip Resistor - Surface Mount RoHS; Manufacturer: FOJAN; Manufacturer Part Number: FRP2512F1003TS; Supplier: LCSC; Supplier Part Number: C49010140; Resistance: 100k; Tolerance: 1%; Voltage Rating: 200V; Power: 2W
footprint RES SMD 2512
pins: 1, 2

## RES 2512 100k 5%
designator C?, comment 100k
100kR 5% 1W 2512 Thick Film Resistor; Manufacturer: FOJAN; Manufacturer Part Number: FRC2512J104 TS; Voltage Rating: 200V; Supplier: LCSC; Supplier Part Number: C2907568; Resistance: 100k; Tolerance: 5%; Power: 1W
footprint RES SMD 2512
pins: 1, 2

## RES 2512 100k 5%_1
designator C?, comment 100k
100kR 5% 2W 2512 Thick Film Resistor; Manufacturer: FOJAN; Manufacturer Part Number: FRP2512J104 TS; Voltage Rating: 200V; Supplier: LCSC; Supplier Part Number: C5713425; Resistance: 100k; Tolerance: 5%; Power: 2W
footprint RES SMD 2512
pins: 1, 2

## RES 2512 100k 5%_2
designator C?, comment 100k
100kR 2W 500V Thick Film Resistor 100ppm/â„ƒ 5% 2512 Chip Resistor - Surface Mount RoHS; Manufacturer: FOJAN; Manufacturer Part Number: FPS2512J104 TS; Supplier: LCSC; Supplier Part Number: C51048291; Resistance: 100k; Tolerance: 5%; Voltage Rating: 500V; Power: 2W
footprint RES SMD 2512
pins: 1, 2

## RES 2512 100k 5%_3
designator C?, comment 100k
1W 100kR Thick Film Resistor 100ppm/â„ƒ 5% 2512 Chip Resistor - Surface Mount RoHS; Manufacturer: FOJAN; Manufacturer Part Number: FRS2512J104 TS; Supplier: LCSC; Supplier Part Number: C42372222; Resistance: 100k; Tolerance: 5%; Power: 1W
footprint RES SMD 2512
pins: 1, 2

## RES 2512 100mR 1%
designator C?, comment 100mR
2W 100mR Current Sense Resistor 50ppm/â„ƒ 1% 2512 Chip Resistor - Surface Mount RoHS; Manufacturer: FOJAN; Manufacturer Part Number: FRM252WFR100TN; Supplier: LCSC; Supplier Part Number: C7420048; Resistance: 100mR; Tolerance: 1%; Power: 2W
footprint RES SMD 2512
pins: 1, 2

## RES 2512 100mR 1%_1
designator C?, comment 100mR
100mR 1% 1W 2512 Thick Film Resistor; Manufacturer: FOJAN; Manufacturer Part Number: FRL2512FR100TS; Voltage Rating: 500V; Supplier: LCSC; Supplier Part Number: C2960832; Resistance: 100mR; Tolerance: 1%; Power: 1W
footprint RES SMD 2512
pins: 1, 2

## RES 2512 100mR 1%_2
designator C?, comment 100mR
100mR 3W Current Sense Resistor 50ppm/â„ƒ 1% 2512 Chip Resistor - Surface Mount RoHS; Manufacturer: FOJAN; Manufacturer Part Number: FPM253WFR100TM; Supplier: LCSC; Supplier Part Number: C7419997; Resistance: 100mR; Tolerance: 1%; Power: 3W
footprint RES SMD 2512
pins: 1, 2

## RES 2512 100mR 5%
designator C?, comment 100mR
100mR 5% 1W 2512 Thick Film Resistor; Manufacturer: FOJAN; Manufacturer Part Number: FRL2512JR100TS; Voltage Rating: 500V; Supplier: LCSC; Supplier Part Number: C2907566; Resistance: 100mR; Tolerance: 5%; Power: 1W
footprint RES SMD 2512
pins: 1, 2

## RES 2512 100R 0.1%
designator C?, comment 100R
1W 100R 200V Thick Film Resistor 100ppm/â„ƒ 0.1% 2512 Chip Resistor - Surface Mount RoHS; Manufacturer: FOJAN; Manufacturer Part Number: FRH2512B1000TS; Supplier: LCSC; Supplier Part Number: C49010151; Resistance: 100R; Tolerance: 0.1%; Voltage Rating: 200V; Power: 1W
footprint RES SMD 2512
pins: 1, 2

## RES 2512 100R 1%
designator C?, comment 100R
2W 100R 200V Thick Film Resistor 200ppm/â„ƒ 1% 2512 Chip Resistor - Surface Mount RoHS; Manufacturer: FOJAN; Manufacturer Part Number: FRP2512F1000TS; Supplier: LCSC; Supplier Part Number: C5126189; Resistance: 100R; Tolerance: 1%; Voltage Rating: 200V; Power: 2W
footprint RES SMD 2512
pins: 1, 2

## RES 2512 100R 1%_1
designator C?, comment 100R
1W 100R 200V Thick Film Resistor 100ppm/â„ƒ 1% 2512 Chip Resistor - Surface Mount RoHS; Manufacturer: FOJAN; Manufacturer Part Number: FRC2512F1000TS; Supplier: LCSC; Supplier Part Number: C2960868; Resistance: 100R; Tolerance: 1%; Voltage Rating: 200V; Power: 1W
footprint RES SMD 2512
pins: 1, 2

## RES 2512 100R 5%
designator C?, comment 100R
1W 100R 200V Thick Film Resistor 100ppm/â„ƒ 5% 2512 Chip Resistor - Surface Mount RoHS; Manufacturer: FOJAN; Manufacturer Part Number: FRC2512J101 TS; Supplier: LCSC; Supplier Part Number: C2907569; Resistance: 100R; Tolerance: 5%; Voltage Rating: 200V; Power: 1W
footprint RES SMD 2512
pins: 1, 2

## RES 2512 100R 5%_1
designator C?, comment 100R
100R 2W Thick Film Resistor 200ppm/â„ƒ 5% 2512 Chip Resistor - Surface Mount RoHS; Manufacturer: FOJAN; Manufacturer Part Number: FRP2512J101 TS; Supplier: LCSC; Supplier Part Number: C7468111; Resistance: 100R; Tolerance: 5%; Power: 2W
footprint RES SMD 2512
pins: 1, 2

## RES 2512 100R 5%_2
designator C?, comment 100R
1W 100R Thick Film Resistor 100ppm/â„ƒ 5% 2512 Chip Resistor - Surface Mount RoHS; Manufacturer: FOJAN; Manufacturer Part Number: FRS2512J101 TS; Supplier: LCSC; Supplier Part Number: C5713475; Resistance: 100R; Tolerance: 5%; Power: 1W
footprint RES SMD 2512
pins: 1, 2

## RES 2512 110k 1%
designator C?, comment 110k
110kR 1% 1W 2512 Thick Film Resistor; Manufacturer: FOJAN; Manufacturer Part Number: FRC2512F1103TS; Voltage Rating: 200V; Supplier: LCSC; Supplier Part Number: C2934047; Resistance: 110k; Tolerance: 1%; Power: 1W
footprint RES SMD 2512
pins: 1, 2

## RES 2512 110k 5%
designator C?, comment 110k
110kR 5% 1W 2512 Thick Film Resistor; Manufacturer: FOJAN; Manufacturer Part Number: FRC2512J114 TS; Voltage Rating: 200V; Supplier: LCSC; Supplier Part Number: C2934083; Resistance: 110k; Tolerance: 5%; Power: 1W
footprint RES SMD 2512
pins: 1, 2

## RES 2512 110mR 1%
designator C?, comment 110mR
110mR 1% 1W 2512 Thick Film Resistor; Manufacturer: FOJAN; Manufacturer Part Number: FRL2512FR110TS; Voltage Rating: 500V; Supplier: LCSC; Supplier Part Number: C2960772; Resistance: 110mR; Tolerance: 1%; Power: 1W
footprint RES SMD 2512
pins: 1, 2

## RES 2512 110mR 5%
designator C?, comment 110mR
110mR 5% 1W 2512 Thick Film Resistor; Manufacturer: FOJAN; Manufacturer Part Number: FRL2512JR110TS; Voltage Rating: 500V; Supplier: LCSC; Supplier Part Number: C5204051; Resistance: 110mR; Tolerance: 5%; Power: 1W
footprint RES SMD 2512
pins: 1, 2

## RES 2512 110R 1%
designator C?, comment 110R
110R 1W 200V Thick Film Resistor 1% 100ppm/â„ƒ 2512 Chip Resistor - Surface Mount RoHS; Manufacturer: FOJAN; Manufacturer Part Number: FRC2512F1100TS; Supplier: LCSC; Supplier Part Number: C7467343; Resistance: 110R; Tolerance: 1%; Voltage Rating: 200V; Power: 1W
footprint RES SMD 2512
pins: 1, 2

## RES 2512 110R 5%
designator C?, comment 110R
110R 1W 200V Thick Film Resistor 100ppm/â„ƒ 5% 2512 Chip Resistor - Surface Mount RoHS; Manufacturer: FOJAN; Manufacturer Part Number: FRC2512J111 TS; Supplier: LCSC; Supplier Part Number: C2934082; Resistance: 110R; Tolerance: 5%; Voltage Rating: 200V; Power: 1W
footprint RES SMD 2512
pins: 1, 2

## RES 2512 120k 1%
designator C?, comment 120k
120kR 1% 1W 2512 Thick Film Resistor; Manufacturer: FOJAN; Manufacturer Part Number: FRC2512F1203TS; Voltage Rating: 200V; Supplier: LCSC; Supplier Part Number: C5126146; Resistance: 120k; Tolerance: 1%; Power: 1W
footprint RES SMD 2512
pins: 1, 2

## RES 2512 120k 5%
designator C?, comment 120k
120kR 5% 1W 2512 Thick Film Resistor; Manufacturer: FOJAN; Manufacturer Part Number: FRC2512J124 TS; Voltage Rating: 200V; Supplier: LCSC; Supplier Part Number: C2934087; Resistance: 120k; Tolerance: 5%; Power: 1W
footprint RES SMD 2512
pins: 1, 2

## RES 2512 120mR 1%
designator C?, comment 120mR
120mR 1% 1W 2512 Thick Film Resistor; Manufacturer: FOJAN; Manufacturer Part Number: FRL2512FR120TS; Voltage Rating: 500V; Supplier: LCSC; Supplier Part Number: C2934364; Resistance: 120mR; Tolerance: 1%; Power: 1W
footprint RES SMD 2512
pins: 1, 2

## RES 2512 120mR 5%
designator C?, comment 120mR
120mR 5% 1W 2512 Thick Film Resistor; Manufacturer: FOJAN; Manufacturer Part Number: FRL2512JR120TS; Voltage Rating: 500V; Supplier: LCSC; Supplier Part Number: C3000671; Resistance: 120mR; Tolerance: 5%; Power: 1W
footprint RES SMD 2512
pins: 1, 2

## RES 2512 120R 1%
designator C?, comment 120R
120R 1W 200V Thick Film Resistor 100ppm/â„ƒ 1% 2512 Chip Resistor - Surface Mount RoHS; Manufacturer: FOJAN; Manufacturer Part Number: FRC2512F1200TS; Supplier: LCSC; Supplier Part Number: C2974107; Resistance: 120R; Tolerance: 1%; Voltage Rating: 200V; Power: 1W
footprint RES SMD 2512
pins: 1, 2

## RES 2512 120R 5%
designator C?, comment 120R
120R 1W 200V Thick Film Resistor 100ppm/â„ƒ 5% 2512 Chip Resistor - Surface Mount RoHS; Manufacturer: FOJAN; Manufacturer Part Number: FRC2512J121 TS; Supplier: LCSC; Supplier Part Number: C2907571; Resistance: 120R; Tolerance: 5%; Voltage Rating: 200V; Power: 1W
footprint RES SMD 2512
pins: 1, 2

## RES 2512 124R 1%
designator C?, comment 124R
124R 1W 200V Thick Film Resistor 100ppm/â„ƒ 1% 2512 Chip Resistor - Surface Mount RoHS; Manufacturer: FOJAN; Manufacturer Part Number: FRC2512F1240TS; Supplier: LCSC; Supplier Part Number: C48533783; Resistance: 124R; Tolerance: 1%; Voltage Rating: 200V; Power: 1W
footprint RES SMD 2512
pins: 1, 2

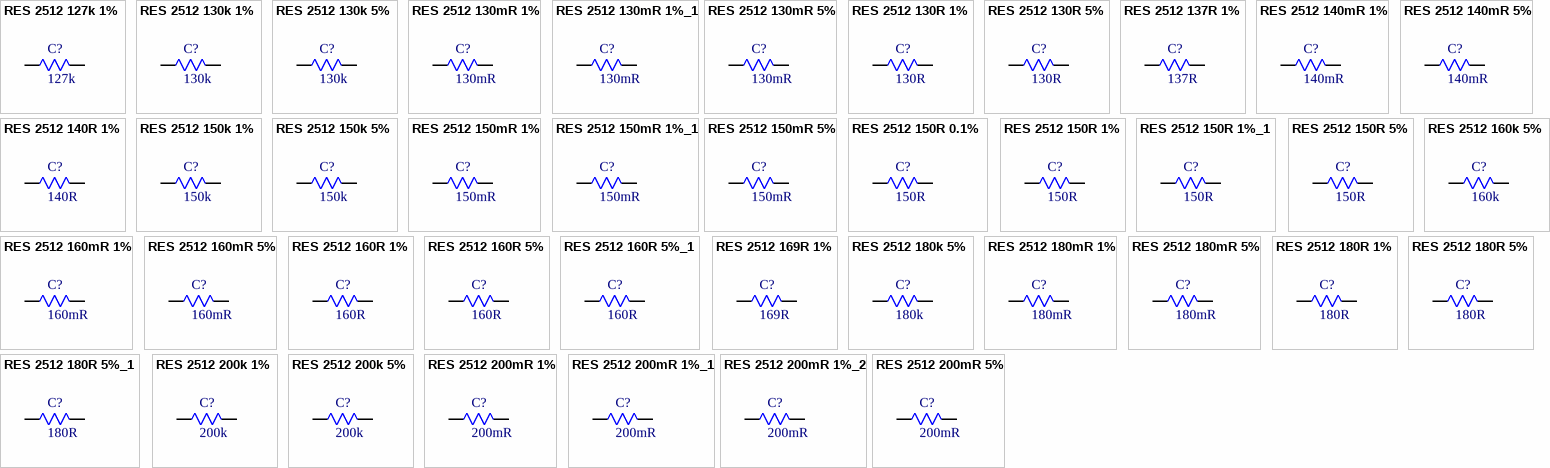
[diagram p119: symbols RES 2512 127k 1% to RES 2512 200mR 5%]

## RES 2512 127k 1%
designator C?, comment 127k
127kR 1% 1W 2512 Thick Film Resistor; Manufacturer: FOJAN; Manufacturer Part Number: FRC2512F1273TS; Voltage Rating: 200V; Supplier: LCSC; Supplier Part Number: C5126022; Resistance: 127k; Tolerance: 1%; Power: 1W
footprint RES SMD 2512
pins: 1, 2

## RES 2512 130k 1%
designator C?, comment 130k
130kR 1% 1W 2512 Thick Film Resistor; Manufacturer: FOJAN; Manufacturer Part Number: FRC2512F1303TS; Voltage Rating: 200V; Supplier: LCSC; Supplier Part Number: C5121562; Resistance: 130k; Tolerance: 1%; Power: 1W
footprint RES SMD 2512
pins: 1, 2

## RES 2512 130k 5%
designator C?, comment 130k
130kR 5% 1W 2512 Thick Film Resistor; Manufacturer: FOJAN; Manufacturer Part Number: FRC2512J134TS; Voltage Rating: 200V; Supplier: LCSC; Supplier Part Number: C5357163; Resistance: 130k; Tolerance: 5%; Power: 1W
footprint RES SMD 2512
pins: 1, 2

## RES 2512 130mR 1%
designator C?, comment 130mR
130mR 1W Thick Film Resistor 600ppm/â„ƒ 1% 2512 Chip Resistor - Surface Mount RoHS; Manufacturer: FOJAN; Manufacturer Part Number: FRL2512FR130TS; Supplier: LCSC; Supplier Part Number: C7467481; Resistance: 130mR; Tolerance: 1%; Power: 1W
footprint RES SMD 2512
pins: 1, 2

## RES 2512 130mR 1%_1
designator C?, comment 130mR
2W 130mR 50ppm/â„ƒ 1% 2512 Chip Resistor - Surface Mount RoHS; Manufacturer: FOJAN; Manufacturer Part Number: FRM252WFR130TK; Supplier: LCSC; Supplier Part Number: C48533608; Resistance: 130mR; Tolerance: 1%; Power: 2W
footprint RES SMD 2512
pins: 1, 2

## RES 2512 130mR 5%
designator C?, comment 130mR
130mR 5% 1W 2512 Thick Film Resistor; Manufacturer: FOJAN; Manufacturer Part Number: FRL2512JR130TS; Voltage Rating: 500V; Supplier: LCSC; Supplier Part Number: C2934370; Resistance: 130mR; Tolerance: 5%; Power: 1W
footprint RES SMD 2512
pins: 1, 2

## RES 2512 130R 1%
designator C?, comment 130R
1W 130R 200V Thick Film Resistor 1% 2512 Chip Resistor - Surface Mount RoHS; Manufacturer: FOJAN; Manufacturer Part Number: FRC2512F1300TS; Supplier: LCSC; Supplier Part Number: C51048190; Resistance: 130R; Tolerance: 1%; Voltage Rating: 200V; Power: 1W
footprint RES SMD 2512
pins: 1, 2

## RES 2512 130R 5%
designator C?, comment 130R
1W 130R 200V Thick Film Resistor 100ppm/â„ƒ 5% 2512 Chip Resistor - Surface Mount RoHS; Manufacturer: FOJAN; Manufacturer Part Number: FRC2512J131 TS; Supplier: LCSC; Supplier Part Number: C5126152; Resistance: 130R; Tolerance: 5%; Voltage Rating: 200V; Power: 1W
footprint RES SMD 2512
pins: 1, 2

## RES 2512 137R 1%
designator C?, comment 137R
1W 137R 200V Thick Film Resistor 100ppm/â„ƒ 1% 2512 Chip Resistor - Surface Mount RoHS; Manufacturer: FOJAN; Manufacturer Part Number: FRC2512F1370TS; Supplier: LCSC; Supplier Part Number: C5126264; Resistance: 137R; Tolerance: 1%; Voltage Rating: 200V; Power: 1W
footprint RES SMD 2512
pins: 1, 2

## RES 2512 140mR 1%
designator C?, comment 140mR
1W 140mR 500V Thick Film Resistor 1% 600ppm/â„ƒ 2512 Chip Resistor - Surface Mount RoHS; Manufacturer: FOJAN; Manufacturer Part Number: FRL2512FR140TS; Supplier: LCSC; Supplier Part Number: C5713412; Resistance: 140mR; Tolerance: 1%; Voltage Rating: 500V; Power: 1W
footprint RES SMD 2512
pins: 1, 2

## RES 2512 140mR 5%
designator C?, comment 140mR
140mR 5% 1W 2512 Thick Film Resistor; Manufacturer: FOJAN; Manufacturer Part Number: FRL2512JR140TS; Voltage Rating: 500V; Supplier: LCSC; Supplier Part Number: C5713415; Resistance: 140mR; Tolerance: 5%; Power: 1W
footprint RES SMD 2512
pins: 1, 2

## RES 2512 140R 1%
designator C?, comment 140R
1W 140R 200V Thick Film Resistor 100ppm/â„ƒ 1% 2512 Chip Resistor - Surface Mount RoHS; Manufacturer: FOJAN; Manufacturer Part Number: FRC2512F1400TS; Supplier: LCSC; Supplier Part Number: C5713375; Resistance: 140R; Tolerance: 1%; Voltage Rating: 200V; Power: 1W
footprint RES SMD 2512
pins: 1, 2

## RES 2512 150k 1%
designator C?, comment 150k
150kR 1% 1W 2512 Thick Film Resistor; Manufacturer: FOJAN; Manufacturer Part Number: FRC2512F1503TS; Voltage Rating: 200V; Supplier: LCSC; Supplier Part Number: C2934050; Resistance: 150k; Tolerance: 1%; Power: 1W
footprint RES SMD 2512
pins: 1, 2

## RES 2512 150k 5%
designator C?, comment 150k
150kR 5% 1W 2512 Thick Film Resistor; Manufacturer: FOJAN; Manufacturer Part Number: FRC2512J154 TS; Voltage Rating: 200V; Supplier: LCSC; Supplier Part Number: C2934090; Resistance: 150k; Tolerance: 5%; Power: 1W
footprint RES SMD 2512
pins: 1, 2

## RES 2512 150mR 1%
designator C?, comment 150mR
150mR 1% 1W 2512 Thick Film Resistor; Manufacturer: FOJAN; Manufacturer Part Number: FRL2512FR150TS; Voltage Rating: 500V; Supplier: LCSC; Supplier Part Number: C2960827; Resistance: 150mR; Tolerance: 1%; Power: 1W
footprint RES SMD 2512
pins: 1, 2

## RES 2512 150mR 1%_1
designator C?, comment 150mR
150mR 1% 3W; Manufacturer: FOJAN; Manufacturer Part Number: FPM253WFR150TN; Supplier: LCSC; Supplier Part Number: C46635903; Resistance: 150mR; Tolerance: 1%; Power: 3W
footprint RES SMD 2512
pins: 1, 2

## RES 2512 150mR 5%
designator C?, comment 150mR
150mR 5% 1W 2512 Thick Film Resistor; Manufacturer: FOJAN; Manufacturer Part Number: FRL2512JR150TS; Voltage Rating: 500V; Supplier: LCSC; Supplier Part Number: C2934371; Resistance: 150mR; Tolerance: 5%; Power: 1W
footprint RES SMD 2512
pins: 1, 2

## RES 2512 150R 0.1%
designator C?, comment 150R
1W 150R 200V Thick Film Resistor 100ppm/â„ƒ 0.1% 2512 Chip Resistor - Surface Mount RoHS; Manufacturer: FOJAN; Manufacturer Part Number: FRH2512B1500TS; Supplier: LCSC; Supplier Part Number: C49196684; Resistance: 150R; Tolerance: 0.1%; Voltage Rating: 200V; Power: 1W
footprint RES SMD 2512
pins: 1, 2

## RES 2512 150R 1%
designator C?, comment 150R
1W 150R 200V Thick Film Resistor 100ppm/â„ƒ 1% 2512 Chip Resistor - Surface Mount RoHS; Manufacturer: FOJAN; Manufacturer Part Number: FRC2512F1500TS; Supplier: LCSC; Supplier Part Number: C2934049; Resistance: 150R; Tolerance: 1%; Voltage Rating: 200V; Power: 1W
footprint RES SMD 2512
pins: 1, 2

## RES 2512 150R 1%_1
designator C?, comment 150R
2W 150R 200V Thick Film Resistor 200ppm/â„ƒ 1% 2512 Chip Resistor - Surface Mount RoHS; Manufacturer: FOJAN; Manufacturer Part Number: FRP2512F1500TS; Supplier: LCSC; Supplier Part Number: C5204053; Resistance: 150R; Tolerance: 1%; Voltage Rating: 200V; Power: 2W
footprint RES SMD 2512
pins: 1, 2

## RES 2512 150R 5%
designator C?, comment 150R
1W 150R 200V Thick Film Resistor 100ppm/â„ƒ 5% 2512 Chip Resistor - Surface Mount RoHS; Manufacturer: FOJAN; Manufacturer Part Number: FRC2512J151 TS; Supplier: LCSC; Supplier Part Number: C2960755; Resistance: 150R; Tolerance: 5%; Voltage Rating: 200V; Power: 1W
footprint RES SMD 2512
pins: 1, 2

## RES 2512 160k 5%
designator C?, comment 160k
160kR 5% 1W 2512 Thick Film Resistor; Manufacturer: FOJAN; Manufacturer Part Number: FRC2512J164 TS; Voltage Rating: 200V; Supplier: LCSC; Supplier Part Number: C2934092; Resistance: 160k; Tolerance: 5%; Power: 1W
footprint RES SMD 2512
pins: 1, 2

## RES 2512 160mR 1%
designator C?, comment 160mR
2W 160mR Thick Film Resistor 1% 600ppm/â„ƒ 2512 Chip Resistor - Surface Mount RoHS; Manufacturer: FOJAN; Manufacturer Part Number: FRL2512FR160TS; Supplier: LCSC; Supplier Part Number: C51048246; Resistance: 160mR; Tolerance: 1%; Power: 2W
footprint RES SMD 2512
pins: 1, 2

## RES 2512 160mR 5%
designator C?, comment 160mR
160mR 5% 1W 2512 Thick Film Resistor; Manufacturer: FOJAN; Manufacturer Part Number: FRL2512JR160TS; Voltage Rating: 500V; Supplier: LCSC; Supplier Part Number: C3013371; Resistance: 160mR; Tolerance: 5%; Power: 1W
footprint RES SMD 2512
pins: 1, 2

## RES 2512 160R 1%
designator C?, comment 160R
1W 160R 200V Thick Film Resistor 100ppm/â„ƒ 1% 2512 Chip Resistor - Surface Mount RoHS; Manufacturer: FOJAN; Manufacturer Part Number: FRC2512F1600TS; Supplier: LCSC; Supplier Part Number: C5713376; Resistance: 160R; Tolerance: 1%; Voltage Rating: 200V; Power: 1W
footprint RES SMD 2512
pins: 1, 2